# Altium schematic symbol library SCH_Module.SchLib: 3 symbols
Pins are listed as number, name and electrical type; pins without a type are passive.

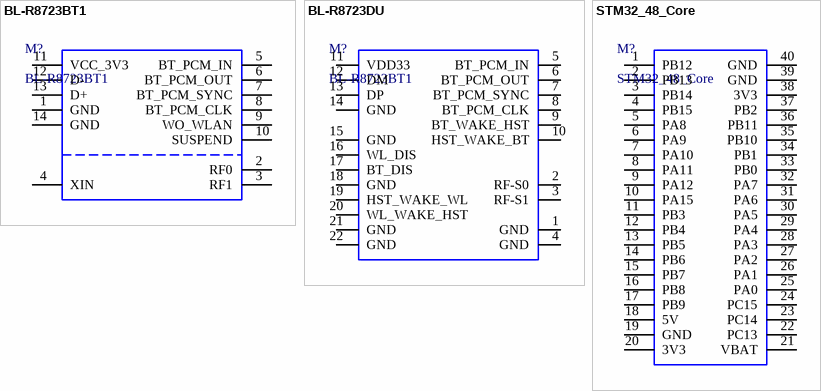
[diagram p0: symbols BL-R8723BT1 to STM32_48_Core]

## BL-R8723BT1
designator M?
USB WIFI+BT
footprint BL-R8723BT1_MOUDLE
pins: 1 GND, 2 RF0, 3 RF1, 4 XIN, 5 BT_PCM_IN, 6 BT_PCM_OUT, 7 BT_PCM_SYNC, 8 BT_PCM_CLK, 9 WO_WLAN, 10 SUSPEND, 11 VCC_3V3, 12 D-, 13 D+, 14 GND

## BL-R8723DU
designator M?, comment BL-R8723BT1
USB WIFI+BT
footprint RTL8723DU_MOUDLE
pins: 1 GND, 2 RF-S0, 3 RF-S1, 4 GND, 5 BT_PCM_IN, 6 BT_PCM_OUT, 7 BT_PCM_SYNC, 8 BT_PCM_CLK, 9 BT_WAKE_HST, 10 HST_WAKE_BT, 11 VDD33, 12 DM, 13 DP, 14 GND, 15 GND, 16 WL_DIS, 17 BT_DIS, 18 GND, 19 HST_WAKE_WL, 20 WL_WAKE_HST, 21 GND, 22 GND

## STM32_48_Core
designator M?
footprint STM32_48_CORE
pins: 1 PB12, 2 PB13, 3 PB14, 4 PB15, 5 PA8, 6 PA9, 7 PA10, 8 PA11, 9 PA12, 10 PA15, 11 PB3, 12 PB4, 13 PB5, 14 PB6, 15 PB7, 16 PB8, 17 PB9, 18 5V, 19 GND, 20 3V3, 21 VBAT, 22 PC13, 23 PC14, 24 PC15, 25 PA0, 26 PA1, 27 PA2, 28 PA3, 29 PA4, 30 PA5, 31 PA6, 32 PA7, 33 PB0, 34 PB1, 35 PB10, 36 PB11, 37 PB2, 38 3V3, 39 GND, 40 GND